# Altium footprint library Adams Altium Library.PcbLib: 250 footprints (part 9 of 16)
Each footprint in its own frame and in the unit in brackets; x right, y up, seen from the top. Pads: shape width x height; smd on the part's side, far side on the other; paste and mask are expansions set on the pad; w line width, h text height; cw(c..) or ccw(c..) is an arc to the next point about the centre after c.
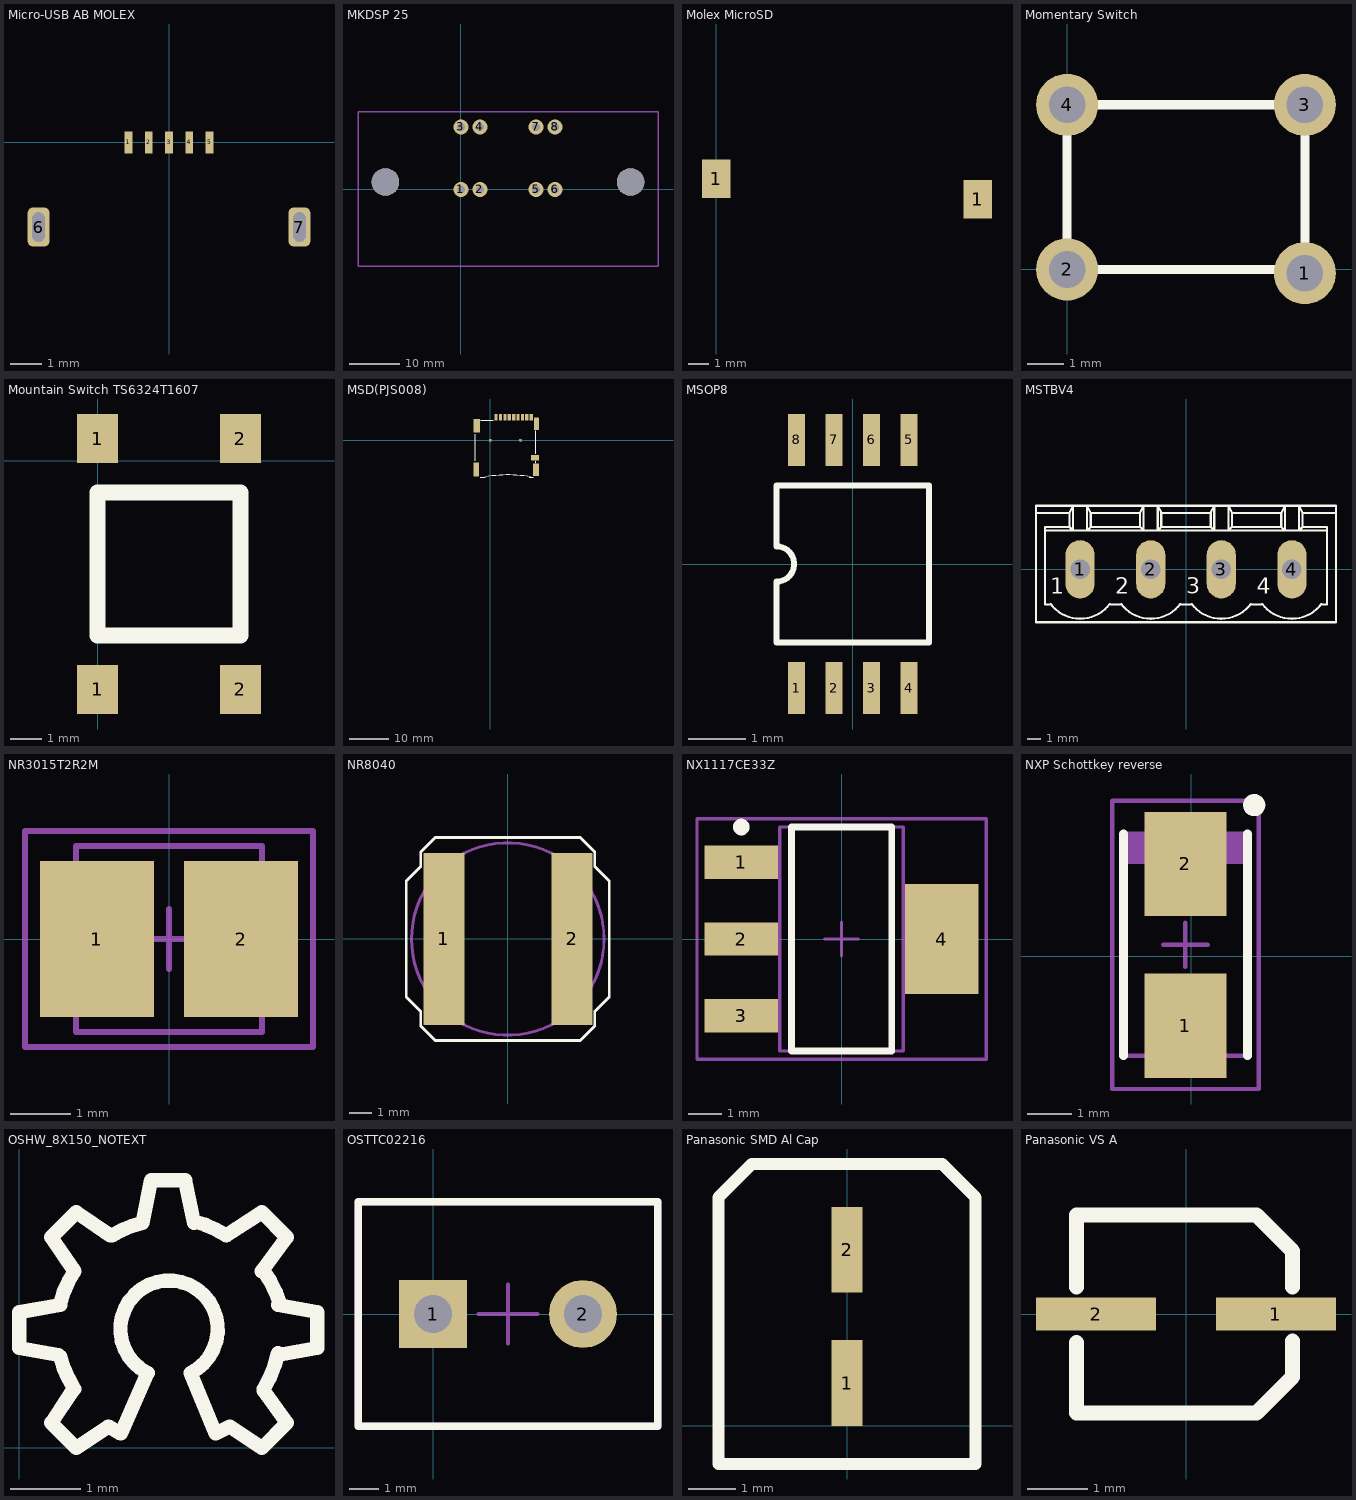
[diagram p8: the footprints below, top view; thin cyan lines are the x and y axes]

## Micro-USB AB MOLEX [mm]
pads (7):
  rect 0.25x0.7 all layers, no hole: 1(-1.3,0) 2(-0.65,0) 3(0,0) 4(0.65,0) 5(1.3,0)
  rrect50% 0.7x1.25 hole 0.4 slot 0.95 at 90 deg: 6(-4.175,-2.71) 7(4.175,-2.71)
3D body: height 3.03, standoff -2.78, extent -4.325,-2.875 4.325,0.5

## MKDSP 25 [mm] "MKDSP 25 High Current Screw Terminal"
height 39
pads (10):
  round 3 hole 1.6: 1(0,0) 2(3.8,0) 3(0,12.5) 4(3.8,12.5) 5(15,0) 6(18.8,0) 7(15,12.5) 8(18.8,12.5)
  round 5.5 hole 5.5: ""(-15.1,1.5) ""(33.9,1.5)
Mechanical 1:
  lines w0.254: -20.6,-15.367 -20.6,15.6 39.4,15.6 39.4,-15.4 29.083,-15.4 -10.414,-15.4 -20.567,-15.4

## Molex MicroSD [mm]
pads (2):
  rect 1.4x1.9 all layers, no hole: 1(0,14.55) 1(12.9,13.55)

## Momentary Switch [mm] "Momentary switch for reset"
pads (4):
  round 1.7 hole 1: 1(6.5,-0.1) 2(0,0) 3(6.5,4.5) 4(0,4.5)
Top Overlay:
  lines w0.254: 0,0 6.4,0 6.5,0.1 6.5,4.5 0,4.5 0,0

## Mountain Switch TS6324T1607 [mm]
pads (4):
  rect 1.3x1.55 smd: 1(0,-7.2) 1(0,0.7) 2(4.5,-7.2) 2(4.5,0.7)
Top Overlay:
  lines w0.508: 0,-5.5 4.5,-5.5 4.5,-1 0,-1 0,-5.5

## MSD(PJS008) [mm]
pads (16):
  rect 0.8x1.6 smd: 1(1.475,5.8) 2(2.575,5.8) 3(3.675,5.8) 4(4.775,5.8) 5(5.875,5.8) 6(6.975,5.8) 7(8.075,5.8) 8(9.175,5.8)
  rect 0.85x1.6 smd: 9(10.325,5.8)
  rect 1.95x1.4 smd: 10(11.225,-4.4)
  rect 1.4x3.5 smd: G1(-3.503,-7.357)
  rect 1.6x3.5 smd: G2(-3.4,3.65)
  rect 1.5x3.1 smd: G3(11.45,-7.35)
  rect 1.2x3.1 smd: G4(11.6,4.15)
  round 0.7 hole 0.7 unplated: H0(0,0) H1(7.55,0)
Top Overlay:
  lines w0.127: -3.81,-5.08 -3.81,1.524 ; -2.535,-9.276 -2.54,-9.271 -1.27,-9.271 ; -2.35,5.075 -1.925,5.075 0.8,5.075 ; -1.277,-9.239 cw(c4.447,-38.688) 10.172,-9.239 ; 9.738,-9.271 10.795,-9.271 ; 11.43,-5.715 11.43,-5.207 ; 11.43,-3.429 11.43,2.413

## MSOP8 [mm]
pads (8):
  rect 0.3x0.9 smd: 1(-0.975,-2.151) 2(-0.325,-2.151) 3(0.325,-2.151) 4(0.975,-2.151) 5(0.975,2.151) 6(0.325,2.151) 7(-0.325,2.151) 8(-0.975,2.151)
Top Overlay:
  lines w0.102: -1.321,-1.359 -1.321,-0.305 ccw(c-1.321,0) -1.321,0.305 -1.321,1.359 1.321,1.359 1.321,-1.359 -1.321,-1.359

## MSTBV4 [mil]
pads (4):
  oval 82.5x165 hole 55: 1(-300,0) 2(-100,0) 3(100,0) 4(300,0)
Top Overlay:
  lines w6: -384,-98 ccw(c-300,-35) -300,-140 ccw(c-300,-35) -216,-98 ; -383,-100 -400,-100 -400,110 ; -215,-100 -185,-100 ; -184,-98 ccw(c-100,-35) -100,-140 ccw(c-100,-35) -16,-98 ; -15,-100 15,-100 ; 16,-98 ccw(c100,-35) 100,-140 ccw(c100,-35) 184,-98 ; 185,-100 215,-100 ; 216,-98 ccw(c300,-35) 300,-140 ccw(c300,-35) 384,-98 ; 383,-100 400,-100 400,110 ; -425,160 -330,160 ; -425,160 -425,-150 425,-150 425,160 ; -425,160 -425,180 -320,180 ; -400,110 -320,110 ; -400,110 -400,120 -330,120 ; -330,120 -320,110 ; -330,120 -330,160 ; -330,160 -320,180 ; -320,110 -320,180 ; -320,110 -280,110 ; -320,180 -280,180 ; -280,110 -270,120 ; -280,110 -280,180 ; -280,110 -120,110 ; -280,180 -270,160 ; -280,180 -120,180 ; -270,120 -270,160 ; -270,120 -130,120 ; -270,160 -130,160 ; -130,120 -120,110 ; -130,120 -130,160 ; -130,160 -120,180 ; -120,110 -120,180 ; -120,110 -80,110 ; -120,180 -80,180 ; -80,110 -70,120 ; -80,110 -80,180 ; -80,110 80,110 ; -80,180 -70,160 ; -80,180 80,180 ; -70,120 -70,160 ; -70,120 70,120 ; -70,160 70,160 ; 70,120 80,110 ; 70,120 70,160 ; 70,160 80,180 ; 80,110 80,180 ; 80,110 120,110 ; 80,180 120,180 ; 120,110 130,120 ; 120,110 120,180 ; 120,110 280,110 ; 120,180 130,160 ; 120,180 280,180 ; 130,120 270,120 ; 130,120 130,160 ; 130,160 270,160 ; 270,120 280,110 ; 270,120 270,160 ; 270,160 280,180 ; 280,110 280,180 ; 280,110 320,110 ; 280,180 320,180 ; 320,110 330,120 ; 320,110 320,180 ; 320,110 400,110 ; 320,180 330,160 ; 320,180 425,180 425,160 ; 330,120 330,160 ; 330,120 400,120 400,110 ; 330,160 425,160
  text "4" at 200,-85 h77.5
  text "3" at 0,-85 h77.5
  text "2" at -200,-85 h77.5
  text "1" at -385,-85 h77.5
Mechanical 16:
  lines w6: -325,-25 -275,25 ; -325,-25 -275,-25 ; -325,-25 -325,25 ; -325,25 -275,-25 ; -325,25 -275,25 ; -275,-25 -275,25 ; -125,-25 -75,25 ; -125,-25 -125,25 ; -125,-25 -75,-25 ; -125,25 -75,-25 ; -125,25 -75,25 ; -75,-25 -75,25 ; 75,-25 125,25 ; 75,-25 125,-25 ; 75,-25 75,25 ; 75,25 125,-25 ; 75,25 125,25 ; 125,-25 125,25 ; 275,-25 325,-25 ; 275,-25 325,25 ; 275,-25 275,25 ; 275,25 325,-25 ; 275,25 325,25 ; 325,-25 325,25
3D body: height 472.44, standoff 0, extent -428,-153 428,183

## NR3015T2R2M [mm] "Precision Wire Wound Inductor, 2-Leads, Body 3.0x3.0mm, IPC Medium Density"
height 1.5
pads (2):
  rect 1.9x2.6 smd: 1(-1.2,0) 2(1.2,0)
Mechanical 13:
  lines w0.1: -1.55,-1.55 1.55,-1.55 1.55,1.55 -1.55,1.55 -1.55,-1.55
Mechanical 15:
  lines w0.1: -0.5,0 0.5,0 ; 0,-0.5 0,0.5 ; -2.4,-1.8 2.4,-1.8 2.4,1.8 -2.4,1.8 -2.4,-1.8
3D body: height 1.5, standoff 0, extent -1.55,-1.55 1.55,1.55

## NR8040 [mil]
pads (2):
  rect 71x296 smd: 1(-110.24,0) 2(111,0)
Top Overlay:
  lines w5: -175,-100 -175,100 -150,125 -150,150 -125,175 125,175 150,150 150,125 175,100 175,-100 150,-125 150,-150 125,-175 -125,-175 -150,-150 -150,-125 -175,-100
Mechanical 16:
  circle w5: c0,0 r166
3D body: height 39.37, standoff 0, extent -175.02,-175.02 175.02,175.02
3D body: height 177.17, standoff 0, extent -166.34,-166.34 166.34,166.34

## NX1117CE33Z [mm] "3.3v linear regulator"
height 1.8
pads (4):
  rect 2.2x1 smd: 1(-3,2.3) 2(-3,0) 3(-3,-2.3)
  rect 2.2x3.3 smd: 4(3,0)
Top Overlay:
  circle w0.25: c-3,3.35 r0.125
  lines w0.2: -1.5,-3.35 1.5,-3.35 1.5,3.35 -1.5,3.35 -1.5,-3.35
Mechanical 13:
  lines w0.1: -1.85,-3.35 1.85,-3.35 1.85,3.35 -1.85,3.35 -1.85,-3.35
Mechanical 15:
  lines w0.1: -0.5,0 0.5,0 ; 0,-0.5 0,0.5 ; -4.325,-3.6 4.325,-3.6 4.325,3.6 -4.325,3.6 -4.325,-3.6
3D body: height 1.8, standoff 0.02, extent -1.85,-3.35 1.85,3.35

## NXP Schottkey reverse [mm]
pads (2):
  rect 1.85x2.35 smd: 1(-0.127,-1.571) 2(-0.127,2.079)
Top Overlay:
  circle w0.25: c1.423,3.404 r0.125
  lines w0.2: -1.527,-2.246 -1.527,2.754 ; 1.273,-2.246 1.273,2.754
Mechanical 13:
  region: -1.477,2.754 -1.477,2.081 1.223,2.081 1.223,2.754
  lines w0.1: -1.477,-2.246 1.223,-2.246 1.223,2.754 -1.477,2.754 -1.477,-2.246
Mechanical 15:
  lines w0.1: -0.627,0.254 0.373,0.254 ; -0.127,-0.246 -0.127,0.754 ; -1.777,-2.996 1.523,-2.996 1.523,3.504 -1.777,3.504 -1.777,-2.996
3D body: height 1.1, standoff 0, extent -1.477,-2.246 1.223,2.754

## OSHW_8X150_NOTEXT [mm]
Top Overlay:
  lines w0.203: 0.559,1.321 0,1.422 0,1.93 0.584,2.032 ; 0.584,1.295 ccw(c2.098,1.695) 0.787,0.838 ; 0.584,2.057 cw(c2.071,1.67) 0.787,2.515 0.457,2.997 0.813,3.353 1.295,3.023 ; 0.762,0.813 0.457,0.356 0.813,0 1.27,0.305 1.448,0.203 1.829,1.067 cw(c2.134,1.689) 2.438,1.067 2.794,0.203 2.997,0.305 3.454,0 3.81,0.356 3.48,0.813 ; 1.321,3.023 cw(c2.114,1.71) 1.753,3.2 1.88,3.81 2.362,3.81 2.489,3.2 ; 2.489,3.226 cw(c2.069,1.663) 2.946,3.023 3.454,3.353 3.81,2.997 3.454,2.515 ; 3.48,0.838 ccw(c2.12,1.677) 3.683,1.346 ; 3.48,2.515 cw(c2.282,1.63) 3.708,2.057 ; 3.683,1.321 4.242,1.422 4.242,1.93 3.683,2.032
Mechanical 16:
  drawing of 191 lines, arcs and shapes, not listed
Mechanical 64:
  text "/home/buglabs/Downloads/oshw_temp.bmp" at 0,-0.018 h0.02
3D body: height 0, standoff 0, extent -0.002,0.051 4.267,3.759

## OSTTC02216 [mm] "Screw Terminal 5.08mm spacing"
pads (2):
  rect 2.3x2.3 hole 1.3: 1(0,0)
  round 2.3 hole 1.3: 2(5.08,0)
Top Overlay:
  lines w0.254: -2.54,-3.8 -2.54,3.8 7.62,3.8 7.62,-3.8 -2.54,-3.8
Mechanical 13:
  lines w0.254: -2.54,-3.8 7.62,-3.8 7.62,3.8 -2.54,3.8 -2.54,-3.8
Mechanical 15:
  lines w0.128: 1.54,0 3.54,0 ; 2.54,-1 2.54,1

## Panasonic SMD Al Cap [mm] "Panasonic SMD Al Electrolytic Capacitor"
height 5.8
pads (2):
  rect 0.65x1.8 smd: 1(0,0.9) 2(0,3.7)
Top Overlay:
  lines w0.254: -2.7,-0.8 -2.7,4.8 -2,5.5 2,5.5 2.7,4.8 2.7,-0.8 -2.7,-0.8

## Panasonic VS A [mm]
pads (2):
  rect 2x0.55 smd: 1(1.5,0) 2(-1.5,0)
Top Overlay:
  lines w0.254: -1.825,-0.475 -1.825,-1.65 1.175,-1.65 1.775,-1.05 1.775,-0.45 ; -1.825,0.45 -1.825,1.65 1.175,1.65 1.775,1.05 1.775,0.45
3D body: height 5.4, standoff 0, extent -1.8,-1.65 1.8,1.65